# Altium footprint library SIP3_2.PcbLib: 1 footprints
Each footprint in its own frame and in the unit in brackets; x right, y up, seen from the top. Pads: shape width x height; smd on the part's side, far side on the other; paste and mask are expansions set on the pad; w line width, h text height; cw(c..) or ccw(c..) is an arc to the next point about the centre after c.
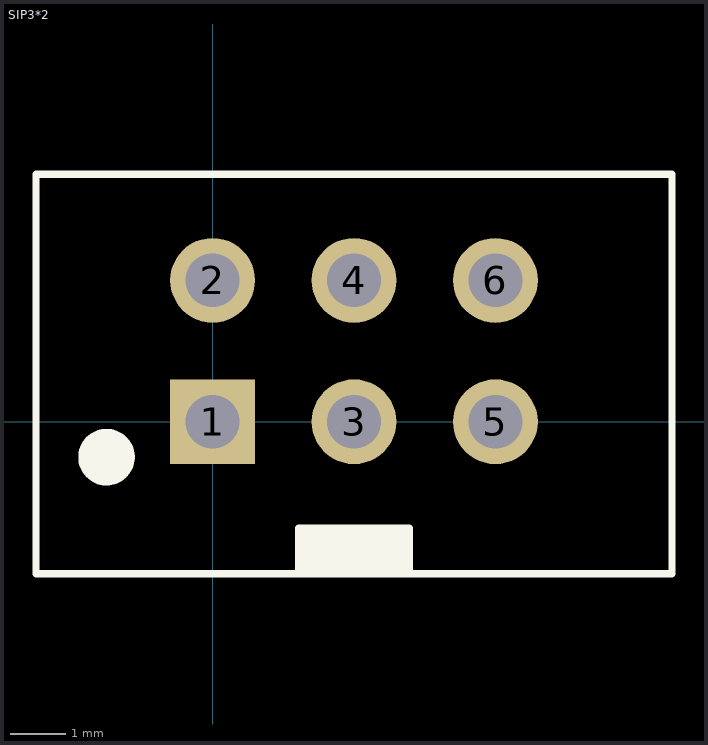
[diagram p0: the footprint, top view; thin cyan lines are the x and y axes]

## SIP3*2 [mil]
pads (6):
  rect 60x60 hole 38: 1(0,0)
  round 60 hole 38: 2(0,100) 3(100,0) 4(100,100) 5(200,0) 6(200,100)
Top Overlay:
  circle w20: c-75,-25 r10
  rectangle: 60.63,-107.48 139.37,-75
  lines w5: 60.63,-107.48 60.63,-75 139.37,-75 139.37,-107.48 ; -125,-107.48 325,-107.48 325,175 -125,175 -125,-107.48
3D body: height 397.64, standoff -59.06, extent -49.69,-51 250.31,149